# EAGLE library part DF12-32 (library awqua_eagle_library)
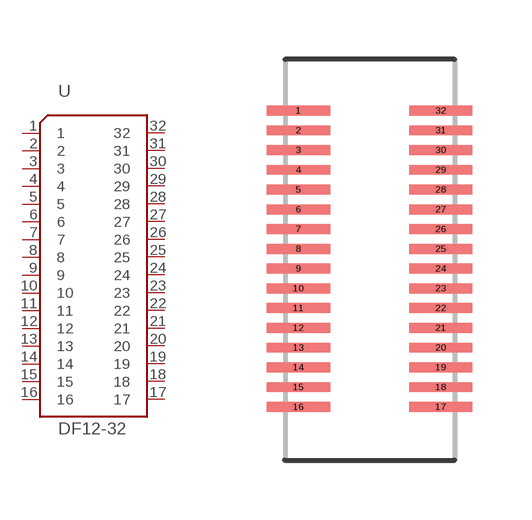
[diagram p11: symbol with the pads of DF12-32; footprint DF12-32]

Designator prefix -

## DF12-32  [DF12-32]
1  1
2  2
3  3
4  4
5  5
6  6
7  7
8  8
9  9
10  10
11  11
12  12
13  13
14  14
15  15
16  16
17  17
18  18
19  19
20  20
21  21
22  22
23  23
24  24
25  25
26  26
27  27
28  28
29  29
30  30
31  31
32  32

## Footprint DF12-32 (pad centres in mm)
smd 1.6 x 0.25: 1 -1.819,3.76; 2 -1.819,3.26; 3 -1.819,2.76; 4 -1.819,2.26; 5 -1.819,1.76; 6 -1.819,1.26; 7 -1.819,0.76; 8 -1.819,0.26; 9 -1.819,-0.24; 10 -1.819,-0.74; 11 -1.819,-1.24; 12 -1.819,-1.74; 13 -1.819,-2.24; 14 -1.819,-2.74; 15 -1.819,-3.24; 16 -1.819,-3.74; 17 1.781,-3.74; 18 1.781,-3.24; 19 1.781,-2.74; 20 1.781,-2.24; 21 1.781,-1.74; 22 1.781,-1.24; 23 1.781,-0.74; 24 1.781,-0.24; 25 1.781,0.26; 26 1.781,0.76; 27 1.781,1.26; 28 1.781,1.76; 29 1.781,2.26; 30 1.781,2.76; 31 1.781,3.26; 32 1.781,3.76